# Altium schematic symbol library Schlib1.SchLib: 13 symbols
Pins are listed as number, name and electrical type; pins without a type are passive.

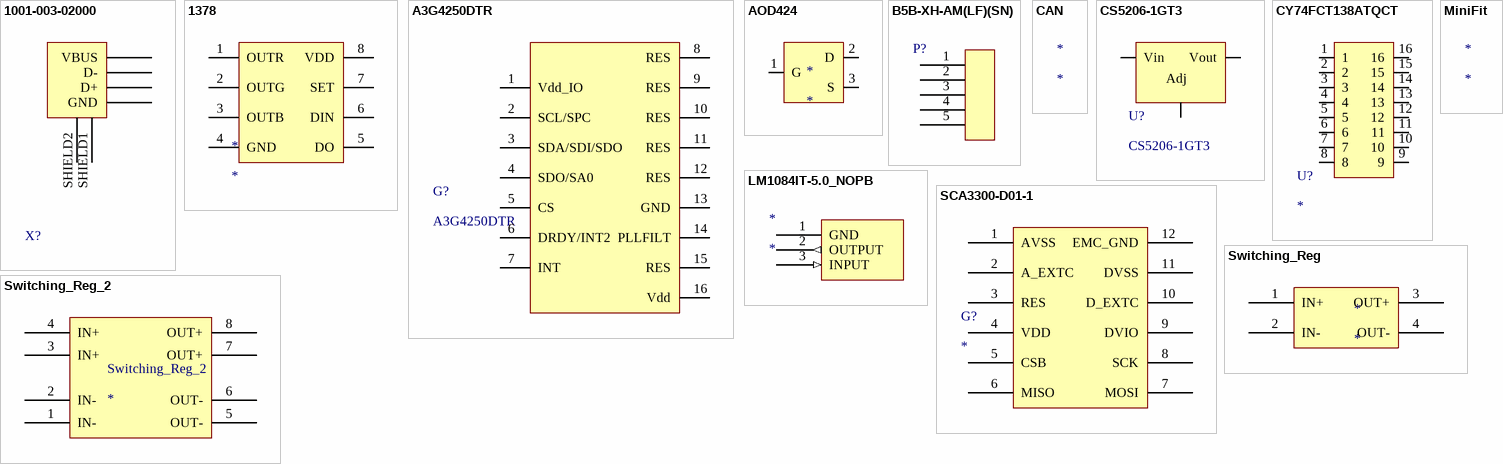
[diagram p0: symbols 1001-003-02000 to Switching_Reg_2]

## 1001-003-02000
designator X?, comment USB  (value not drawn)
Conn Rcpt USB1.1 Typeb 4POS R/a; Manufacturer: CNC Tech; Manufacturer Part Number: 1001-003-02000; Number of Contacts: 4; Gender: Receptacle; Supplier 1: Digi-Key; RoHS: Yes; Category: Connectors; Stock 1: 8680; Pricing 1: 1=0.85000, 10=0.72000, 25=0.69080, 40=0.67625, 80=0.64675, 230=0.58800, 440=0.52920, 1600=0.44100, 3200=0.42630 (USD); Mount: Through Hole,Horizontal; Package Quantity: 100; Packaging: Tray; Connector Type: USB; ComponentLink1URL: https://datasheet.ciiva.com/851/1001-003-02000-851414.pdf?src-supplier=Digi-Key; ComponentLink1Description: https://datasheet.ciiva.com/851/1001-003-02000-851414.pdf?src-supplier=Digi-Key; Supplier Part Number 1: 1175-1002-ND
footprint SOP63P599X175-16N
pins: 1 VBUS, 2 D-, 3 D+, 4 GND, SHIELD1, SHIELD2

## 1378
designator *
Ws2811 Neopixel Led Driver Chip - 10 Pack; Manufacturer: Adafruit Industries; Manufacturer Part Number: 1378; Number of Outputs: 3; Max Supply Voltage: 5.5V; Output Voltage: 12V; Output Current per Channel: 18.5mA; Frequency: 400kHz; Supplier 1: Digi-Key; RoHS: Yes; Category: LED Drivers; Stock 1: 157; Pricing 1: 1=4.95000 (USD); Mount: Surface Mount; Case/Package: Module; Weight: 0.1lb; Min Operating Temperature: -25°C; Max Operating Temperature: 85°C; Length: 3.5inch; Width: 0.25inch; Height: 0.1inch; ComponentLink1URL: https://cdn-learn.adafruit.com/downloads/pdf/adafruit-neopixel-uberguide.pdf?src-supplier=Digi-Key; ComponentLink1Description: https://cdn-learn.adafruit.com/downloads/pdf/adafruit-neopixel-uberguide.pdf?src-supplier=Digi-Key; Supplier Part Number 1: 1528-1537-ND
pins: 1 OUTR, 2 OUTG, 3 OUTB, 4 GND, 5 DO, 6 DIN, 7 SET, 8 VDD

## A3G4250DTR
designator G?
3-axis digital gyroscope for automotive telematics, navigation applications, AEC-Q100 qualified; Manufacturer: STMicroelectronics; Max Supply Voltage: 3.6V; Min Supply Voltage: 2.4V; Nominal Supply Current: 7mA; Output Type: SPI,I2C,Digital,DIGITAL OUTPUT; Supplier 1: Digi-Key; Manufacturer Part Number: A3G4250DTR; RoHS: Yes; Category: Gyroscopes; Stock 1: 30; Pricing 1: 1=17.14000, 10=15.75300, 25=15.10040, 100=13.60400 (USD); Mount: Surface Mount; Case/Package: LGA; Number of Pins: 16; Contact Plating: Gold; Min Operating Temperature: -40°C; Max Operating Temperature: 85°C; Packaging: Tape and Reel; Package Quantity: 1; Operating Supply Current: 7mA; Series: Automotive, AEC-Q100; Supply Current: 7mA; Length: 4mm; Width: 4mm; Height: 1mm; Radiation Hardening: No; Lead Free: Lead Free; ComponentLink1URL: https://datasheet.ciiva.com/12092/dm00047823-118781-12092272.pdf?src-supplier=Mouser; ComponentLink1Description: https://datasheet.ciiva.com/12092/dm00047823-118781-12092272.pdf?src-supplier=Mouser; ComponentLink2URL: https://datasheet.ciiva.com/6481/dm00047823-6481503.pdf?src-supplier=Digi-Key; ComponentLink2Description: https://datasheet.ciiva.com/6481/dm00047823-6481503.pdf?src-supplier=Digi-Key; ComponentLink3URL: https://datasheet.ciiva.com/6481/dm00047823-6481485.pdf?src-supplier=Digi-Key; ComponentLink3Description: https://datasheet.ciiva.com/6481/dm00047823-6481485.pdf?src-supplier=Digi-Key; ComponentLink4URL: https://datasheet.ciiva.com/16410/dm00047823-16410540.pdf?src-supplier=Future+Electronics; ComponentLink4Description: https://datasheet.ciiva.com/16410/dm00047823-16410540.pdf?src-supplier=Future+Electronics; Supplier Part Number 1: 497-13200-1-ND
pins: 1 Vdd_IO, 2 SCL/SPC, 3 SDA/SDI/SDO, 4 SDO/SA0, 5 CS, 6 DRDY/INT2, 7 INT, 8 RES, 9 RES, 10 RES, 11 RES, 12 RES, 13 GND, 14 PLLFILT, 15 RES, 16 Vdd

## AOD424
designator *
footprint DPAK228P998X240-3N
pins: 1 G, 2 D, 3 S

## B5B-XH-AM(LF)(SN)
designator P?  (value not drawn)
JST, Connector Header, 5 Position, 2.5mm, Through Hole, Shrouded - 4 Wall, Press-Fit, Solder, Detent Lock, Natural; Manufacturer Part Number: B5B-XH-AM(LF)(SN); Contact Resistance: 20mR; Max Current Rating: 3A; Number of Positions: 5; Max Voltage Rating (AC): 250V; Connector Type: Male Pin; Pitch: 0.098inch; Supplier 1: Digi-Key; Manufacturer: JST; RoHS: Yes; Category: Connectors; Stock 1: 3220; Pricing 1: 1=0.26000, 10=0.21900, 100=0.16880, 500=0.14286, 1000=0.11688, 5000=0.10389, 10000=0.09415 (USD); Mount: Through Hole; Contact Material: Brass; Contact Plating: Tin,Copper,Lead; Color: Green; Housing Color: White; Housing Material: Polyamide; Min Operating Temperature: -25°C; Max Operating Temperature: 85°C; Number of Rows: 1; Packaging: Bulk; Termination: Press-Fit; Fastening Type: Detent; Orientation: Straight; Series: XH; Contact Type: Male Pin; Length: 14.9mm; Depth: 5.75mm; Lead Free: Lead Free; ComponentLink1URL: https://datasheet.ciiva.com/26894/getdatasheetpartid-640829-26894480.pdf?src-supplier=Verical; ComponentLink1Description: https://datasheet.ciiva.com/26894/getdatasheetpartid-640829-26894480.pdf?src-supplier=Verical; ComponentLink2URL: https://datasheet.ciiva.com/726/exh-726396.pdf?src-supplier=Digi-Key; ComponentLink2Description: https://datasheet.ciiva.com/726/exh-726396.pdf?src-supplier=Digi-Key
footprint B5B-XH-AM(LF)(SN)
footprint B5B-XH-AM(LF)(SN)
pins: 1, 2, 3, 4, 5

## CAN
designator *

## CS5206-1GT3
designator U?
IC Reg Ldo Adj 6A TO220AB; Manufacturer: ON Semiconductor; Dropout Voltage: 1.3V; Output Voltage: 13V; Number of Regulators: 1; Min Current Limit: 6.5A; Supplier 1: Digi-Key; Manufacturer Part Number: CS5206-1GT3; RoHS: No; Category: Voltage Regulators - Linear; Mount: Through Hole; Case/Package: TO-220-3; Min Operating Temperature: 0°C; Max Operating Temperature: 70°C; Package Quantity: 50; Packaging: Rail/Tube; Output Current: 6A; Lead Free: Contains Lead; RoHS Compliant: No; ComponentLink1URL: https://datasheet.ciiva.com/2071/cs5206-d-2071267.pdf?src-supplier=Digi-Key; ComponentLink1Description: https://datasheet.ciiva.com/2071/cs5206-d-2071267.pdf?src-supplier=Digi-Key; Supplier Part Number 1: CS5206-1GT3OS-ND
pins: 9 Vin, 10 Vout, 11 Adj

## CY74FCT138ATQCT
designator U?
Decoder/Demultiplexer Single 3-to-8 16-Pin SSOP T/R; Manufacturer: Texas Instruments; Manufacturer Part Number: CY74FCT138ATQCT; Propagation Delay: 5.9ns; Max Supply Voltage: 5.25V; Min Supply Voltage: 4.75V; Logic Function: Demultiplexer,Decoder,Demux; High Level Output Current: -32mA; Low Level Output Current: 64mA; Number of Input Lines: 1; Number of Output Lines: 8; Number of Inputs: 3; Operating Supply Voltage: 5V; Polarity: Inverting; Max Power Dissipation: 600mW; Bandwidth: 70MHz; Supplier 1: Digi-Key; RoHS: Yes; Category: Logic ICs; Stock 1: 346; Pricing 1: 1=1.74000, 10=1.56400, 25=1.47520, 100=1.25670, 250=1.18000 (USD); Mount: Surface Mount; Case/Package: SSOP; Number of Pins: 16; Weight: 0.002628oz; Contact Plating: Gold; Min Operating Temperature: -40°C; Max Operating Temperature: 85°C; Packaging: Tape and Reel; Package Quantity: 2500; Supply Type: Single; Independent Circuits: 1; Series: 74FCT; Number of Outputs: 8; Number of Elements: 1; Number of Bits: 8; Turn-On Delay Time: 5.9ns; Technology: CMOS; Number of Circuits: 1; Number of Channels: 1; Max Frequency: 70MHz; Length: 5mm; Width: 4mm; Height: 1.5mm; Radiation Hardening: No; Lead Free: Lead Free; RoHS Compliant: Yes; ComponentLink1URL: https://datasheet.ciiva.com/15092/getdatasheetpartid-517902-15092559.pdf?src-supplier=Verical; ComponentLink1Description: https://datasheet.ciiva.com/15092/getdatasheetpartid-517902-15092559.pdf?src-supplier=Verical; ComponentLink2URL: https://datasheet.ciiva.com/26866/cy74fct138atqct-26866998.pdf?src-supplier=IIIC; ComponentLink2Description: https://datasheet.ciiva.com/26866/cy74fct138atqct-26866998.pdf?src-supplier=IIIC; ComponentLink3URL: https://datasheet.ciiva.com/14294/cy54fct138t-14294423.pdf?src-supplier=Avnet; ComponentLink3Description: https://datasheet.ciiva.com/14294/cy54fct138t-14294423.pdf?src-supplier=Avnet; ComponentLink4URL: https://datasheet.ciiva.com/1889/cy74fct138t-1889660.pdf?src-supplier=Digi-Key; ComponentLink4Description: https://datasheet.ciiva.com/1889/cy74fct138t-1889660.pdf?src-supplier=Digi-Key; ComponentLink5URL: https://datasheet.ciiva.com/1889/cy74fct138t-1889661.pdf?src-supplier=Digi-Key; ComponentLink5Description: https://datasheet.ciiva.com/1889/cy74fct138t-1889661.pdf?src-supplier=Digi-Key; ComponentLink6URL: https://datasheet.ciiva.com/1889/cy74fct138t-1889662.pdf?src-supplier=Digi-Key; ComponentLink6Description: https://datasheet.ciiva.com/1889/cy74fct138t-1889662.pdf?src-supplier=Digi-Key
footprint CY74FCT138ATQCT
pins: 1, 2, 3, 4, 5, 6, 7, 8, 9, 10, 11, 12, 13, 14, 15, 16

## LM1084IT-5.0_NOPB
designator *
footprint LM1084IT-5.0_NOPB
pins: 1 (power), 2 (out), 3 (in)
text: GND; OUTPUT; INPUT

## MiniFit
designator *

## SCA3300-D01-1
designator G?
SCA3300 Series 3.3 V 1 mA ±1.5g/±3g/±6g/ 3-Axis Surface Mount Accelerometer; Manufacturer: Murata; Manufacturer Part Number: SCA3300-D01-1; Output Type: SPI; Axis: X, Y, Z; Supplier 1: Digi-Key; RoHS: Yes; Stock 1: 1042; Pricing 1: 1=36.90000, 5=35.22800, 10=31.87200, 25=29.35640, 50=26.00120 (USD); Mount: Surface Mount; Case/Package: Nonstandard; Min Operating Temperature: -40°C; Max Operating Temperature: 125°C; Packaging: Cut Tape; RoHS Compliant: Yes; ComponentLink1URL: http://www.farnell.com/datasheets/2366815.pdf?src-supplier=Farnell; ComponentLink1Description: http://www.farnell.com/datasheets/2366815.pdf?src-supplier=Farnell; ComponentLink2URL: https://www.murata.com/en-us/api/pdfdownloadapi?cate=cgsubAccelerometers&partno=SCA3300-D01&src-supplier=Digi-Key; ComponentLink2Description: https://www.murata.com/en-us/api/pdfdownloadapi?cate=cgsubAccelerometers&partno=SCA3300-D01&src-supplier=Digi-Key; ComponentLink3URL: https://www.murata.com/~/media/webrenewal/products/sensor/accel/sca3300/sca3300-d01%20industrial%203-axis%20accelerometer%20datasheet%20_a1.ashx?src-supplier=Digi-Key; ComponentLink3Description: https://www.murata.com/~/media/webrenewal/products/sensor/accel/sca3300/sca3300-d01%20industrial%203-axis%20accelerometer%20datasheet%20_a1.ashx?src-supplier=Digi-Key; ComponentLink4URL: https://www.murata.com/en-us/api/pdfdownloadapi?cate=cgsubAccelerometers&amp;partno=SCA3300-D01&src-supplier=Digi-Key; ComponentLink4Description: https://www.murata.com/en-us/api/pdfdownloadapi?cate=cgsubAccelerometers&amp;partno=SCA3300-D01&src-supplier=Digi-Key; ComponentLink5URL: http://www.farnell.com/datasheets/2366815.pdf?src-supplier=Newark; ComponentLink5Description: http://www.farnell.com/datasheets/2366815.pdf?src-supplier=Newark; Supplier Part Number 1: 490-16144-1-ND
footprint SOP63P599X175-16N
pins: 1 AVSS, 2 A_EXTC, 3 RES, 4 VDD, 5 CSB, 6 MISO, 7 MOSI, 8 SCK, 9 DVIO, 10 D_EXTC, 11 DVSS, 12 EMC_GND

## Switching_Reg
designator *
pins: 1 IN+, 2 IN-, 3 OUT+, 4 OUT-

## Switching_Reg_2
designator Switching_Reg_2
footprint PCBComponent_1
pins: 1 IN-, 2 IN-, 3 IN+, 4 IN+, 5 OUT-, 6 OUT-, 7 OUT+, 8 OUT+